# EAGLE library part 20021221-00010C4LF (library Amphenol)
2x5 1.27mm 10-POS SMD header MPN: 20021221-00010C4LF Designed by Akram Ali https://github.com/AKstudios
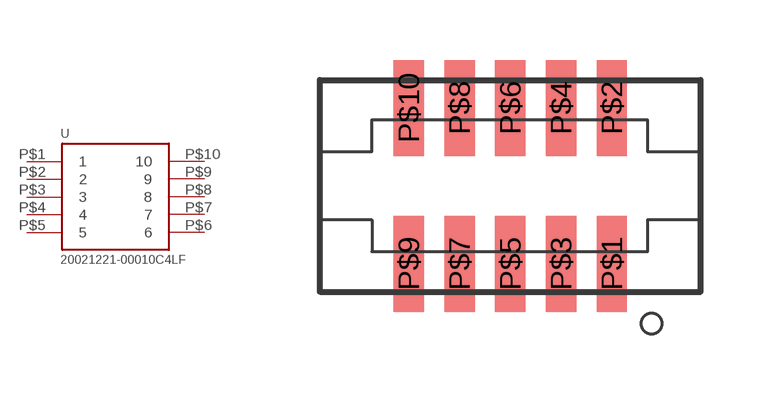
[diagram p4: symbol with the pads of SMD_HEADER_1.27MM_2X5; footprint SMD_HEADER_1.27MM_2X5]

Designator prefix -

## 20021221-00010C4LF  [SMD_HEADER_1.27MM_2X5]
P$1  1
P$2  2
P$3  3
P$4  4
P$5  5
P$6  6
P$7  7
P$8  8
P$9  9
P$10  10

## Footprint SMD_HEADER_1.27MM_2X5 (pad centres in mm)
smd 0.76 x 2.4: P$1 7.305,0.7; P$2 7.305,4.6; P$3 6.035,0.7; P$4 6.035,4.6; P$5 4.765,0.7; P$6 4.765,4.6; P$7 3.495,0.7; P$8 3.495,4.6; P$9 2.225,0.7; P$10 2.225,4.6